# EAGLE library part MAX483 (library Traficon)
RS485 TRANSEIVER
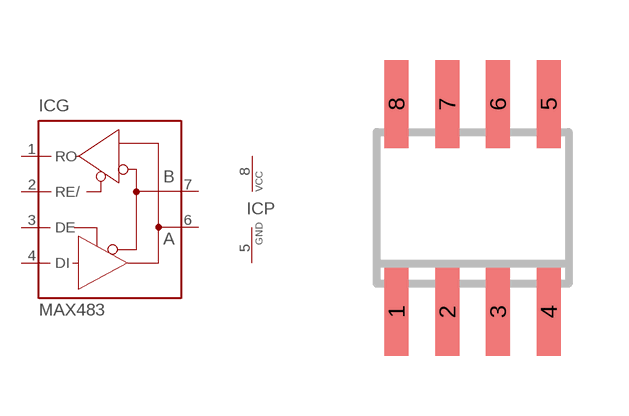
[diagram p13: symbol with the pads of SO08; footprint SO08]

Designator prefix IC; gates G=MAX481 P=VCC-GND

## MAX483CSA  [SO08]
1  G:RO  out
2  G:RE/  in
3  G:DE  in
4  G:DI  in
5  P:GND  pwr
6  G:A  pas
7  G:B  pas
8  P:VCC  pwr

## Footprint SO08 (pad centres in mm)
SMALL OUTLINE INTEGRATED CIRCUIT body 3.9 mm/JEDEC MS-012AA
smd 0.6 x 2.2: 1 -1.905,-2.6; 2 -0.635,-2.6; 3 0.635,-2.6; 4 1.905,-2.6; 5 1.905,2.6; 6 0.635,2.6; 7 -0.635,2.6; 8 -1.905,2.6